# Altium footprint library KLS2-300-5.00-02P-2S.PcbLib: 1 footprints
Each footprint in its own frame and in the unit in brackets; x right, y up, seen from the top. Pads: shape width x height; smd on the part's side, far side on the other; paste and mask are expansions set on the pad; w line width, h text height; cw(c..) or ccw(c..) is an arc to the next point about the centre after c.
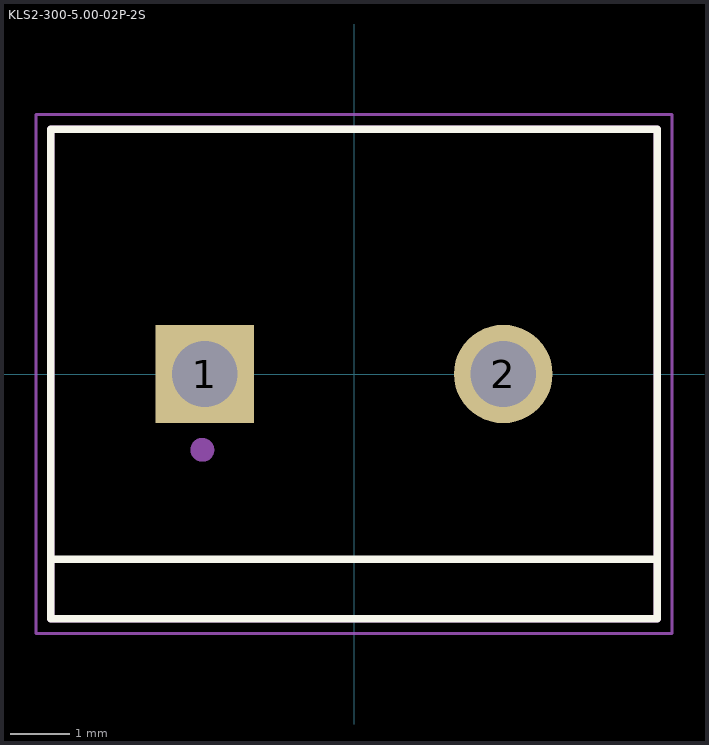
[diagram p0: the footprint, top view; thin cyan lines are the x and y axes]

## KLS2-300-5.00-02P-2S [mm] "terminal, header"
pads (2):
  rect 1.65x1.65 / inner round 1.65 / far side rect 1.65x1.65 hole 1.1: 1(-2.5,0)
  round 1.65 hole 1.1: 2(2.5,0)
Top Overlay:
  lines w0.127: -5.08,-3.1 5.08,-3.1 ; -5.08,-3.1 -5.08,4.1 5.08,4.1 5.08,-3.1 ; -5.08,-3.1 -5.08,-4.1 5.08,-4.1 5.08,-3.1
Mechanical 13:
  circle w0.2: c-2.54,-1.27 r0.1
  lines w0.127: -5.08,-4.1 -5.08,4.1 5.08,4.1 5.08,-4.1 -5.08,-4.1
Mechanical 15:
  lines w0.05: -5.33,-4.35 -5.33,4.35 5.33,4.35 5.33,-4.35 -5.33,-4.35
3D body "step_temp.STEP": height 10.05, standoff -3.45, extent -5.68,-4.1 5.08,4.1